# EAGLE library part SQJ208EP (library SQJ208EP)
SQJ504EP-T1_GE3 Dual N-Channel MOSFET, 30 (N Channel) A, 30 (P Channel) A, 40 V TrenchFET, 8-Pin SO-8 Vishay Siliconix Source: Datasheet <https://www.vishay.com/docs/76029/sqj504ep.pdf>
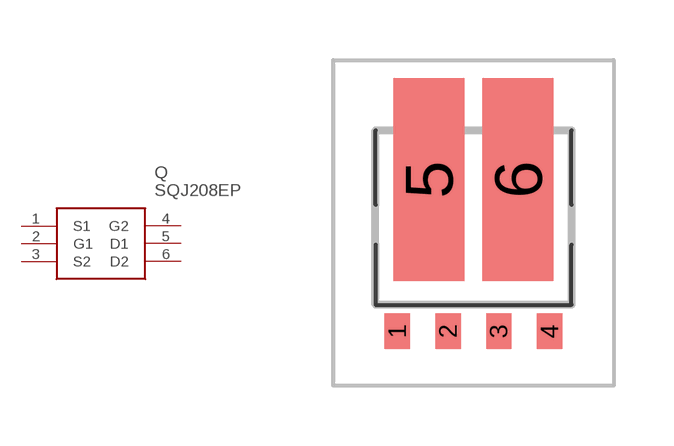
[diagram p0: symbol with the pads of SQJ208EP; footprint SQJ208EP]

Designator prefix Q

## SQJ208EP (ARROW_PART_NUMBER: SQJ504EP-T1_GE3; ARROW_PRICE-STOCK: https://www.arrow.com/en/products/sqj504ep-t1-ge3/vishay; DESCRIPTION: SQJ504EP-T1_GE3 Dual N-Channel MOSFET, 30 (N Channel) A, 30 (P Channel) A, 40 V TrenchFET, 8-Pin SO-8 Vishay Siliconix; HEIGHT: mm; MANUFACTURER_NAME: Vishay; MANUFACTURER_PART_NUMBER: SQJ504EP-T1_GE3; MOUSER_PART_NUMBER: 78-SQJ504EP-T1_GE3; MOUSER_PRICE-STOCK: https://www.mouser.co.uk/ProductDetail/Vishay-Semiconductors/SQJ504EP-T1_GE3?qs=lYGu3FyN48c%2FaMqXfdPaEA%3D%3D)  [SQJ208EP]
1  S1
2  G1
3  S2
4  G2
5  D1
6  D2

## Footprint SQJ208EP (pad centres in mm)
PowerPAK SO-8L DUAL
smd 0.635 x 0.889: 1 -1.905,-0.66; 2 -0.635,-0.66; 3 0.635,-0.66; 4 1.905,-0.66
smd 1.778 x 5.08: 5 -1.115,3.135; 6 1.115,3.135